# EAGLE library part SCD41-D-R2 (library SCD41-D-R2)
Air Quality Sensor CO2 Sensor 2.5V/3.3V/5V 20-Pin SMD EP Source: Datasheet <https://cz.mouser.com/datasheet/2/682/Sensirion_CO2_Sensors_SCD4x_Datasheet-2010009.pdf>
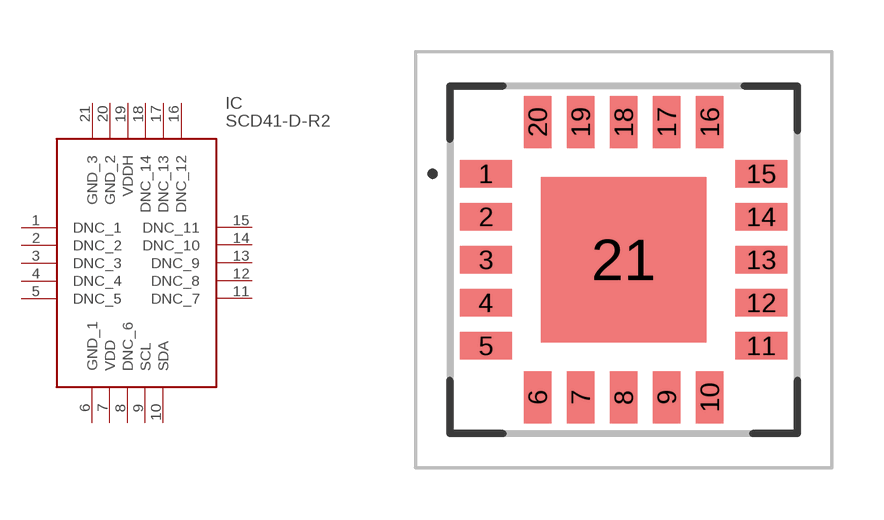
[diagram p0: symbol with the pads of SCD41DR2; footprint SCD41DR2]

Designator prefix IC

## SCD41-D-R2 (Arrow_Part_Number: SCD41-D-R2; Arrow_Price-Stock: https://www.arrow.com/en/products/scd41-d-r2/sensirion-ag?utm_currency=USD&region=nac; Description: Air Quality Sensor CO2 Sensor 2.5V/3.3V/5V 20-Pin SMD EP; Height: 6.8mm; Manufacturer_Name: Sensirion; Manufacturer_Part_Number: SCD41-D-R2; Mouser_Part_Number: 403-SCD41-D-R2; Mouser_Price-Stock: https://www.mouser.co.uk/ProductDetail/Sensirion/SCD41-D-R2?qs=HBWAp0VN4Ri4o7ei4T3s0g%3D%3D)  [SCD41DR2]
1  DNC_1
2  DNC_2
3  DNC_3
4  DNC_4
5  DNC_5
6  GND_1
7  VDD
8  DNC_6
9  SCL
10  SDA
11  DNC_7
12  DNC_8
13  DNC_9
14  DNC_10
15  DNC_11
16  DNC_12
17  DNC_13
18  DNC_14
19  VDDH
20  GND_2
21  GND_3

## Footprint SCD41DR2 (pad centres in mm)
SCD41-D-R2-1
smd 1.5 x 0.8: 1 -4,2.5; 2 -4,1.25; 3 -4,0; 4 -4,-1.25; 5 -4,-2.5; 11 4,-2.5; 12 4,-1.25; 13 4,0; 14 4,1.25; 15 4,2.5
smd 0.8 x 1.5: 6 -2.5,-4; 7 -1.25,-4; 8 0,-4; 9 1.25,-4; 10 2.5,-4; 16 2.5,4; 17 1.25,4; 18 0,4; 19 -1.25,4; 20 -2.5,4
smd 4.8 x 4.8: 21 0,0